# EAGLE library part RFM12B-BO (library Tropotek)
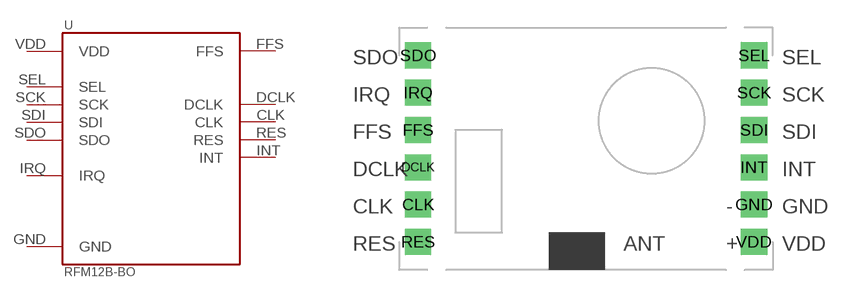
[diagram p1: symbol with the pads of RFM-BO; footprint RFM-BO]

Designator prefix -

## RFM12B-BO  [RFM-BO]
CLK  CLK  out
DCLK  DCLK
FFS  FFS
GND  GND  pwr
INT  INT
IRQ  IRQ  out
RES  RES
SCK  SCK  in
SDI  SDI  in
SDO  SDO  out
SEL  SEL  in
VDD  VDD  pwr

## Footprint RFM-BO (pad centres in mm)
drill 0.8 pad 1.778 square: CLK -11.43,-1.905; DCLK -11.43,0.635; FFS -11.43,3.175; GND 11.43,-1.905; INT 11.43,0.635; IRQ -11.43,5.715; RES -11.43,-4.445; SCK 11.43,5.715; SDI 11.43,3.175; SDO -11.43,8.255; SEL 11.43,8.255; VDD 11.43,-4.445